# Altium footprint library XEL6030222MEC.PcbLib: 1 footprints
Each footprint in its own frame and in the unit in brackets; x right, y up, seen from the top. Pads: shape width x height; smd on the part's side, far side on the other; paste and mask are expansions set on the pad; w line width, h text height; cw(c..) or ccw(c..) is an arc to the next point about the centre after c.
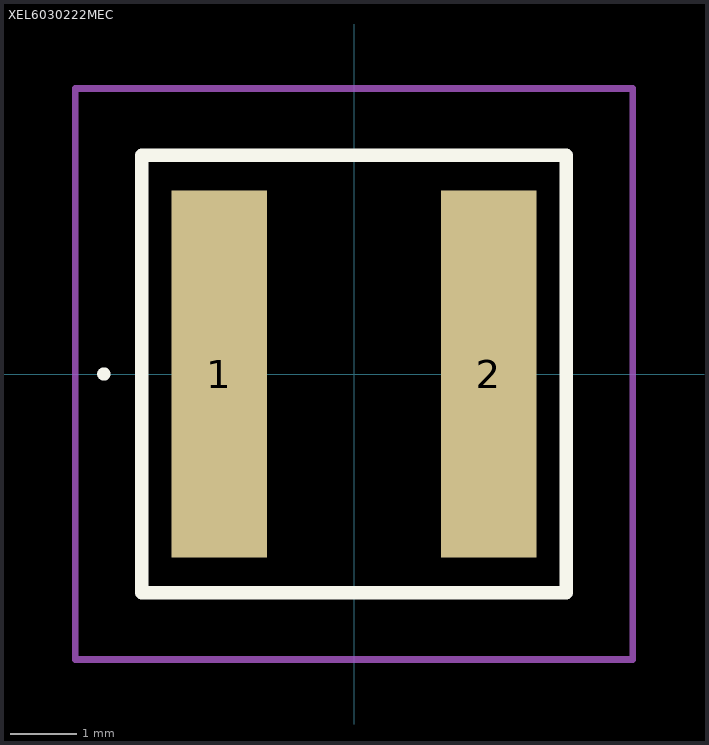
[diagram p0: the footprint, top view; thin cyan lines are the x and y axes]

## XEL6030222MEC [mm]
pads (2):
  rect 1.43x5.5 smd: 1(-2.02,0) 2(2.02,0)
Top Overlay:
  lines w0.1: -3.8,0 -3.8,0 ; -3.8,0 ccw(c-3.75,0) -3.7,0 ; -3.8,0 cw(c-3.75,0) -3.7,0 ; -3.7,0 -3.7,0
  lines w0.2: -3.18,-3.28 3.18,-3.28 3.18,3.28 -3.18,3.28 -3.18,-3.28
Mechanical 15:
  lines w0.1: -3.18,-3.28 3.18,-3.28 3.18,3.28 -3.18,3.28 -3.18,-3.28
Mechanical 20:
  lines w0.1: -4.18,-4.28 4.18,-4.28 4.18,4.28 -4.18,4.28 -4.18,-4.28